# Altium footprint library CONN_FPC.PcbLib: 37 footprints (part 2 of 3)
Each footprint in its own frame and in the unit in brackets; x right, y up, seen from the top. Pads: shape width x height; smd on the part's side, far side on the other; paste and mask are expansions set on the pad; w line width, h text height; cw(c..) or ccw(c..) is an arc to the next point about the centre after c.
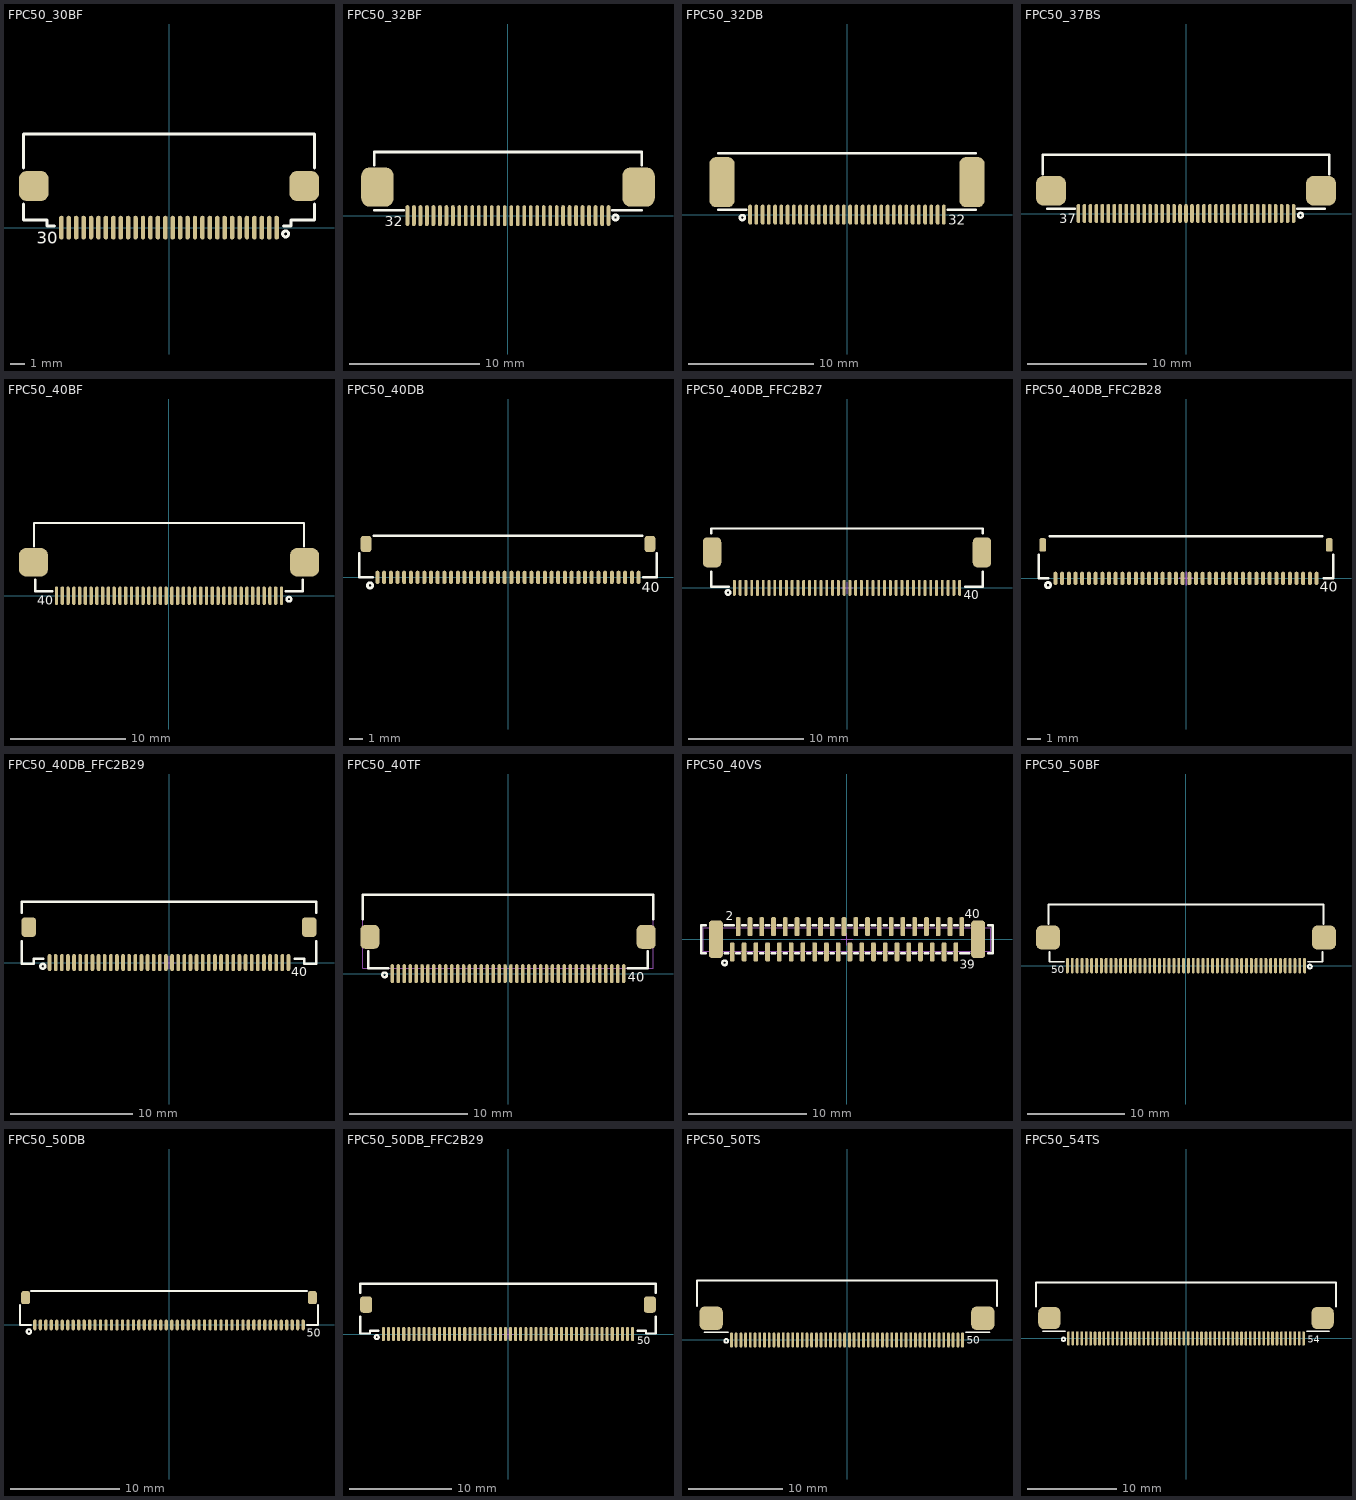
[diagram p1: the footprints below, top view; thin cyan lines are the x and y axes]

## FPC50_30BF [mm] "FPC, pitch: 0.5mm, Bot. Contact, front flip lock, FFC2B35-30-G"
height 3
pads (32):
  oval 0.3x1.6 smd mask+0.05: 1(7.25,0) 2(6.75,0) 3(6.25,0) 4(5.75,0) 5(5.25,0) 6(4.75,0) 7(4.25,0) 8(3.75,0) 9(3.25,0) 10(2.75,0) 11(2.25,0) 12(1.75,0) 13(1.25,0) 14(0.75,0) 15(0.25,0) 16(-0.25,0) 17(-0.75,0) 18(-1.25,0) 19(-1.75,0) 20(-2.25,0) 21(-2.75,0) 22(-3.25,0) 23(-3.75,0) 24(-4.25,0) 25(-4.75,0) 26(-5.25,0) 27(-5.75,0) 28(-6.25,0) 29(-6.75,0) 30(-7.25,0)
  rrect50% 2x2 smd: ""(-9.1,2.8) ""(9.1,2.8)
Top Overlay:
  circle w0.2: c7.85,-0.425 r0.2
  lines w0.2: -9.8,1.6 -9.8,0.5 -8.2,0.5 -8.2,0.1 -7.7,0.1 ; -9.8,4 -9.8,6.3 9.8,6.3 9.8,4 ; 7.7,0.1 8.2,0.1 8.2,0.5 9.8,0.5 9.8,1.6
  text "30" at -8.9,-1.1 h0.8
3D body "FFC2B35-30-G_REVA2.step": height 2.1, standoff 0.1, extent -9.7,-0.515 9.7,6.245

## FPC50_32BF [mm] "FPC 0.5mm, Bottom Contact, front flip lock"
height 3
pads (34):
  oval 0.3x1.6 smd mask+0.05: 1(7.75,0) 2(7.25,0) 3(6.75,0) 4(6.25,0) 5(5.75,0) 6(5.25,0) 7(4.75,0) 8(4.25,0) 9(3.75,0) 10(3.25,0) 11(2.75,0) 12(2.25,0) 13(1.75,0) 14(1.25,0) 15(0.75,0) 16(0.25,0) 17(-0.25,0) 18(-0.75,0) 19(-1.25,0) 20(-1.75,0) 21(-2.25,0) 22(-2.75,0) 23(-3.25,0) 24(-3.75,0) 25(-4.25,0) 26(-4.75,0) 27(-5.25,0) 28(-5.75,0) 29(-6.25,0) 30(-6.75,0) 31(-7.25,0) 32(-7.75,0)
  rrect50% 2.5x3 smd: ""(-10.05,2.2) ""(10.05,2.2)
Top Overlay:
  circle w0.2: c8.281,-0.145 r0.2
  lines w0.2: -10.3,0.4 -8.05,0.4 ; -10.3,3.9 -10.3,4.9 10.3,4.9 10.3,3.9 ; 8.05,0.4 10.3,0.4
  text "32" at -9.5,-0.8 h0.8
3D body "FFC2B35-32-T.stp": height 1.99, standoff -0.01, extent -10.2,-0.3 10.2,6.46

## FPC50_32DB [mm] "FPC, 32 Position; 0.5mm, Dual Side Contact, back flip lock"
height 3
pads (34):
  oval 0.3x1.6 smd mask+0.05: 1(-7.75,0) 2(-7.25,0) 3(-6.75,0) 4(-6.25,0) 5(-5.75,0) 6(-5.25,0) 7(-4.75,0) 8(-4.25,0) 9(-3.75,0) 10(-3.25,0) 11(-2.75,0) 12(-2.25,0) 13(-1.75,0) 14(-1.25,0) 15(-0.75,0) 16(-0.25,0) 17(0.25,0) 18(0.75,0) 19(1.25,0) 20(1.75,0) 21(2.25,0) 22(2.75,0) 23(3.25,0) 24(3.75,0) 25(4.25,0) 26(4.75,0) 27(5.25,0) 28(5.75,0) 29(6.25,0) 30(6.75,0) 31(7.25,0) 32(7.75,0)
  rrect50% 2x4 smd: ""(-10,2.6) ""(10,2.6)
Top Overlay:
  circle w0.2: c-8.374,-0.24 r0.2
  lines w0.2: -10.3,0.4 -8.05,0.4 ; -10.3,4.9 10.3,4.9 ; 8.05,0.4 10.3,0.4
  text "32" at 8.1,-0.8 h0.8
3D body "XF2M_3215_1A.step": height 2, standoff 0, extent -10.05,-1.035 10.05,4.865

## FPC50_37BS [mm] "FPC, pitch: 0.5mm, Slide lock, TE 3-1734592-7"
height 3
pads (39):
  oval 0.3x1.6 smd mask+0.05: 1(9,0) 2(8.5,0) 3(8,0) 4(7.5,0) 5(7,0) 6(6.5,0) 7(6,0) 8(5.5,0) 9(5,0) 10(4.5,0) 11(4,0) 12(3.5,0) 13(3,0) 14(2.5,0) 15(2,0) 16(1.5,0) 17(1,0) 18(0.5,0) 19(0,0) 20(-0.5,0) 21(-1,0) 22(-1.5,0) 23(-2,0) 24(-2.5,0) 25(-3,0) 26(-3.5,0) 27(-4,0) 28(-4.5,0) 29(-5,0) 30(-5.5,0) 31(-6,0) 32(-6.5,0) 33(-7,0) 34(-7.5,0) 35(-8,0) 36(-8.5,0) 37(-9,0)
  rrect50% 2.5x2.5 smd: ""(-11.3,1.9) ""(11.3,1.9)
Top Overlay:
  circle w0.2: c9.581,-0.145 r0.2
  lines w0.2: -12,3.3 -12,4.9 12,4.9 12,3.3 ; -11.6,0.4 -9.3,0.4 ; 9.3,0.4 11.6,0.4
  text "37" at -10.6,-0.8 h0.8
3D body "3-1734592-7.stp": height 2.05, standoff 0, extent -11.965,-0.3 11.965,4.81

## FPC50_40BF [mm] "FPC, pitch: 0.5mm, Bot. Contact, front flip lock, FH12-40S-0.5SH, molex 54132-4062"
height 3
pads (42):
  oval 0.3x1.6 smd mask+0.05: 1(9.75,0) 2(9.25,0) 3(8.75,0) 4(8.25,0) 5(7.75,0) 6(7.25,0) 7(6.75,0) 8(6.25,0) 9(5.75,0) 10(5.25,0) 11(4.75,0) 12(4.25,0) 13(3.75,0) 14(3.25,0) 15(2.75,0) 16(2.25,0) 17(1.75,0) 18(1.25,0) 19(0.75,0) 20(0.25,0) 21(-0.25,0) 22(-0.75,0) 23(-1.25,0) 24(-1.75,0) 25(-2.25,0) 26(-2.75,0) 27(-3.25,0) 28(-3.75,0) 29(-4.25,0) 30(-4.75,0) 31(-5.25,0) 32(-5.75,0) 33(-6.25,0) 34(-6.75,0) 35(-7.25,0) 36(-7.75,0) 37(-8.25,0) 38(-8.75,0) 39(-9.25,0) 40(-9.75,0)
  rrect50% 2.5x2.5 smd: ""(-11.75,2.9) ""(11.75,2.9)
Top Overlay:
  circle w0.2: c10.4,-0.3 r0.2
  lines w0.2: -11.7,4.3 -11.7,6.3 11.7,6.3 11.7,4.3 ; -11.6,1.4 -11.6,0.4 -10.1,0.4 ; 10.1,0.4 11.6,0.4 11.6,1.4
  text "40" at -11.4,-0.8 h0.8
3D body "FH12-40S-0.5SH.stp": height 2.09, standoff -0.01, extent -12.05,-0.3 12.05,6.1

## FPC50_40DB [mm] "FPC, 40 Position; 0.5mm, Top&Bottom Contact, back flip lock, FH34SRJ-40S-0.5SH"
height 2
pads (42):
  oval 0.3x1 smd paste-0.025 mask+0.05: 1(-9.75,0) 2(-9.25,0) 3(-8.75,0) 4(-8.25,0) 5(-7.75,0) 6(-7.25,0) 7(-6.75,0) 8(-6.25,0) 9(-5.75,0) 10(-5.25,0) 11(-4.75,0) 12(-4.25,0) 13(-3.75,0) 14(-3.25,0) 15(-2.75,0) 16(-2.25,0) 17(-1.75,0) 18(-1.25,0) 19(-0.75,0) 20(-0.25,0) 21(0.25,0) 22(0.75,0) 23(1.25,0) 24(1.75,0) 25(2.25,0) 26(2.75,0) 27(3.25,0) 28(3.75,0) 29(4.25,0) 30(4.75,0) 31(5.25,0) 32(5.75,0) 33(6.25,0) 34(6.75,0) 35(7.25,0) 36(7.75,0) 37(8.25,0) 38(8.75,0) 39(9.25,0) 40(9.75,0)
  rrect50% 0.8x1.2 smd paste-0.05 mask+0.05: ""(-10.6,2.5) ""(10.6,2.5)
Top Overlay:
  circle w0.2: c-10.3,-0.6 r0.2
  lines w0.2: -11.1,1.8 -11.1,0 -10.1,0 ; -10,3.1 10,3.1 ; 10.1,0 11.1,0 11.1,1.8
  text "40" at 10,-1.1 h0.75
3D body "FH34SRJ-40S-0.5SH.stp": height 1, standoff 0, extent -11,-0.8 11,3

## FPC50_40DB_FFC2B27 [mm] "FPC, 40 Position; 0.5mm, Top&Bottom Contact, back flip lock, GCT FFC2B27-40-G"
pads (42):
  oval 0.25x1.4 smd mask+0.05: 1(-9.75,0) 2(-9.25,0) 3(-8.75,0) 4(-8.25,0) 5(-7.75,0) 6(-7.25,0) 7(-6.75,0) 8(-6.25,0) 9(-5.75,0) 10(-5.25,0) 11(-4.75,0) 12(-4.25,0) 13(-3.75,0) 14(-3.25,0) 15(-2.75,0) 16(-2.25,0) 17(-1.75,0) 18(-1.25,0) 19(-0.75,0) 20(-0.25,0) 21(0.25,0) 22(0.75,0) 23(1.25,0) 24(1.75,0) 25(2.25,0) 26(2.75,0) 27(3.25,0) 28(3.75,0) 29(4.25,0) 30(4.75,0) 31(5.25,0) 32(5.75,0) 33(6.25,0) 34(6.75,0) 35(7.25,0) 36(7.75,0) 37(8.25,0) 38(8.75,0) 39(9.25,0) 40(9.75,0)
  rrect50% 1.6x2.6 smd: ""(-11.685,3.08) ""(11.685,3.08)
Top Overlay:
  circle w0.2: c-10.3,-0.4 r0.2
  lines w0.2: -11.75,1.418 -11.75,0.09 -10.225,0.09 ; -11.75,4.718 -11.75,5.13 11.75,5.13 11.75,4.718 ; 10.225,0.09 11.75,0.09 11.75,1.418
  text "40" at 10.1,-1 h0.75
Mechanical 13:
  lines w0.1: -0.5,0 0.5,0 ; 0,-0.5 0,0.5
3D body "FFC2B27-40-G.stp": height 2.87, standoff -0.05, extent -11.75,-0.2 11.75,5.07

## FPC50_40DB_FFC2B28 [mm] "FPC, 40 Position; 0.5mm, Top&Bottom Contact, back flip lock, GCT FFC2B28-40-G"
height 1.75
pads (42):
  oval 0.3x1 smd mask+0.05: 1(-9.75,0) 2(-9.25,0) 3(-8.75,0) 4(-8.25,0) 5(-7.75,0) 6(-7.25,0) 7(-6.75,0) 8(-6.25,0) 9(-5.75,0) 10(-5.25,0) 11(-4.75,0) 12(-4.25,0) 13(-3.75,0) 14(-3.25,0) 15(-2.75,0) 16(-2.25,0) 17(-1.75,0) 18(-1.25,0) 19(-0.75,0) 20(-0.25,0) 21(0.25,0) 22(0.75,0) 23(1.25,0) 24(1.75,0) 25(2.25,0) 26(2.75,0) 27(3.25,0) 28(3.75,0) 29(4.25,0) 30(4.75,0) 31(5.25,0) 32(5.75,0) 33(6.25,0) 34(6.75,0) 35(7.25,0) 36(7.75,0) 37(8.25,0) 38(8.75,0) 39(9.25,0) 40(9.75,0)
  rrect50% 0.5x1 smd: ""(-10.7,2.5) ""(10.7,2.5)
Top Overlay:
  circle w0.2: c-10.3,-0.5 r0.2
  lines w0.2: -11,1.75 -11,0 -10.3,0 ; -10.15,3.15 10.15,3.15 ; 10.3,0 11,0 11,1.75
  text "40" at 10,-1 h0.75
Mechanical 13:
  lines w0.1: -0.5,0 0.5,0 ; 0,-0.5 0,0.5
3D body "FFC2B28-40-G.stp": height 1.72, standoff -0.03, extent -11,-0.25 11,3

## FPC50_40DB_FFC2B29 [mm] "FPC, 40 Position; 0.5mm, Top&Bottom Contact, back flip lock, GCT FFC2B29-40-G"
pads (42):
  oval 0.3x1.4 smd mask+0.05: 1(-9.75,0) 2(-9.25,0) 3(-8.75,0) 4(-8.25,0) 5(-7.75,0) 6(-7.25,0) 7(-6.75,0) 8(-6.25,0) 9(-5.75,0) 10(-5.25,0) 11(-4.75,0) 12(-4.25,0) 13(-3.75,0) 14(-3.25,0) 15(-2.75,0) 16(-2.25,0) 17(-1.75,0) 18(-1.25,0) 19(-0.75,0) 20(-0.25,0) 21(0.25,0) 22(0.75,0) 23(1.25,0) 24(1.75,0) 25(2.25,0) 26(2.75,0) 27(3.25,0) 28(3.75,0) 29(4.25,0) 30(4.75,0) 31(5.25,0) 32(5.75,0) 33(6.25,0) 34(6.75,0) 35(7.25,0) 36(7.75,0) 37(8.25,0) 38(8.75,0) 39(9.25,0) 40(9.75,0)
  rrect50% 1.2x1.6 smd: ""(-11.445,2.895) ""(11.445,2.895)
Top Overlay:
  circle w0.2: c-10.3,-0.3 r0.2
  lines w0.2: -12.025,1.745 -12.025,-0.1 -11.055,-0.1 -11.055,0.325 -10.25,0.325 ; -12.025,4.045 -12.025,4.945 12.025,4.945 12.025,4.045 ; 10.25,0.325 11.055,0.325 11.055,-0.1 12.025,-0.1 12.025,1.745
  text "40" at 10,-1.1 h0.75
Mechanical 13:
  lines w0.1: -0.5,0 0.5,0 ; 0,-0.5 0,0.5
3D body "FFC2B29-40-G.stp": height 3.66, standoff -0.05, extent -12.025,-0.4 12.025,4.87

## FPC50_40TF [mm] "FPC, 40 Position; 0.5mm, Top Contact, front flip lock"
height 2
pads (42):
  oval 0.3x1.6 smd mask+0.05: 1(-9.75,0) 2(-9.25,0) 3(-8.75,0) 4(-8.25,0) 5(-7.75,0) 6(-7.25,0) 7(-6.75,0) 8(-6.25,0) 9(-5.75,0) 10(-5.25,0) 11(-4.75,0) 12(-4.25,0) 13(-3.75,0) 14(-3.25,0) 15(-2.75,0) 16(-2.25,0) 17(-1.75,0) 18(-1.25,0) 19(-0.75,0) 20(-0.25,0) 21(0.25,0) 22(0.75,0) 23(1.25,0) 24(1.75,0) 25(2.25,0) 26(2.75,0) 27(3.25,0) 28(3.75,0) 29(4.25,0) 30(4.75,0) 31(5.25,0) 32(5.75,0) 33(6.25,0) 34(6.75,0) 35(7.25,0) 36(7.75,0) 37(8.25,0) 38(8.75,0) 39(9.25,0) 40(9.75,0)
  rrect50% 1.6x2 smd: ""(-11.65,3.1) ""(11.65,3.1)
Top Overlay:
  circle w0.2: c-10.4,-0.1 r0.2
  lines w0.2: -12.25,4.57 -12.25,6.645 12.25,6.645 12.25,4.57 ; -11.8,1.9 -11.8,0.445 -10.1,0.445 ; 10.1,0.445 11.8,0.445 11.8,1.9
  text "40" at 10.1,-0.7 h0.8
Mechanical 13:
  lines w0.1: -12.25,0.445 12.25,0.445 12.25,6.645 -12.25,6.645 -12.25,0.445
3D body "FH12A-40S-0.5SH.stp": height 2.05, standoff -0.1, extent -12.25,-0.3 12.25,6.7

## FPC50_40VS [mm] "FPC, FH12 Series; 40 Position; 0.5mm,Vertical, FH12-40S-0.5SVA Slide-lock"
pads (42):
  rrect50% 0.4x1.6 smd mask+0.1: 1(-9.75,-1.075) 2(-9.25,1.075) 3(-8.75,-1.075) 4(-8.25,1.075) 5(-7.75,-1.075) 6(-7.25,1.075) 7(-6.75,-1.075) 8(-6.25,1.075) 9(-5.75,-1.075) 10(-5.25,1.075) 11(-4.75,-1.075) 12(-4.25,1.075) 13(-3.75,-1.075) 14(-3.25,1.075) 15(-2.75,-1.075) 16(-2.25,1.075) 17(-1.75,-1.075) 18(-1.25,1.075) 19(-0.75,-1.075) 20(-0.25,1.075) 21(0.25,-1.075) 22(0.75,1.075) 23(1.25,-1.075) 24(1.75,1.075) 25(2.25,-1.075) 26(2.75,1.075) 27(3.25,-1.075) 28(3.75,1.075) 29(4.25,-1.075) 30(4.75,1.075) 31(5.25,-1.075) 32(5.75,1.075) 33(6.25,-1.075) 34(6.75,1.075) 35(7.25,-1.075) 36(7.75,1.075) 37(8.25,-1.075) 38(8.75,1.075) 39(9.25,-1.075) 40(9.75,1.075)
  rrect50% 1.2x3.2 smd: ""(-11.15,0) ""(11.15,0)
Top Overlay:
  circle w0.2: c-10.4,-2 r0.2
  lines w0.2: -12,-1.2 -12.4,-1.2 -12.4,1.2 -12,1.2 ; -10.4,-1.2 -10.1,-1.2 ; -10.4,1.2 -9.6,1.2 ; -9.4,-1.2 -9.1,-1.2 ; -8.9,1.2 -8.6,1.2 ; -8.4,-1.2 -8.1,-1.2 ; -7.9,1.2 -7.6,1.2 ; -7.4,-1.2 -7.1,-1.2 ; -6.9,1.2 -6.6,1.2 ; -6.4,-1.2 -6.1,-1.2 ; -5.9,1.2 -5.6,1.2 ; -5.4,-1.2 -5.1,-1.2 ; -4.9,1.2 -4.6,1.2 ; -4.4,-1.2 -4.1,-1.2 ; -3.9,1.2 -3.6,1.2 ; -3.4,-1.2 -3.1,-1.2 ; -2.9,1.2 -2.6,1.2 ; -2.4,-1.2 -2.1,-1.2 ; -1.9,1.2 -1.6,1.2 ; -1.4,-1.2 -1.1,-1.2 ; -0.9,1.2 -0.6,1.2 ; -0.4,-1.2 -0.1,-1.2 ; 0.1,1.2 0.4,1.2 ; 0.6,-1.2 0.9,-1.2 ; 1.1,1.2 1.4,1.2 ; 1.6,-1.2 1.9,-1.2 ; 2.1,1.2 2.4,1.2 ; 2.6,-1.2 2.9,-1.2 ; 3.1,1.2 3.4,1.2 ; 3.6,-1.2 3.9,-1.2 ; 4.1,1.2 4.4,1.2 ; 4.6,-1.2 4.9,-1.2 ; 5.1,1.2 5.4,1.2 ; 5.6,-1.2 5.9,-1.2 ; 6.1,1.2 6.4,1.2 ; 6.6,-1.2 6.9,-1.2 ; 7.1,1.2 7.4,1.2 ; 7.6,-1.2 7.9,-1.2 ; 8.1,1.2 8.4,1.2 ; 8.6,-1.2 8.9,-1.2 ; 9.1,1.2 9.4,1.2 ; 9.6,-1.2 10.4,-1.2 ; 10.1,1.2 10.4,1.2 ; 12,-1.2 12.4,-1.2 12.4,1.2 12,1.2
  text "40" at 10,1.8 h0.75
  text "2" at -10.3,1.6 h0.75
  text "39" at 9.6,-2.5 h0.75
Mechanical 13:
  lines w0.1: -12.2,-1 12.2,-1 12.2,1 -12.2,1 -12.2,-1
Mechanical 15:
  lines w0.1: -0.5,0 0.5,0 ; 0,-0.5 0,0.5
3D body "ZIF connector.stp": height 4.47, standoff -0.02, extent -12.118,-1.454 12.182,1.483

## FPC50_50BF [mm] "FPC, pitch: 0.5mm, Bot. Contact, front flip lock, FH12-50S-0.5SH"
height 3
pads (52):
  oval 0.3x1.6 smd mask+0.05: 1(12.25,0) 2(11.75,0) 3(11.25,0) 4(10.75,0) 5(10.25,0) 6(9.75,0) 7(9.25,0) 8(8.75,0) 9(8.25,0) 10(7.75,0) 11(7.25,0) 12(6.75,0) 13(6.25,0) 14(5.75,0) 15(5.25,0) 16(4.75,0) 17(4.25,0) 18(3.75,0) 19(3.25,0) 20(2.75,0) 21(2.25,0) 22(1.75,0) 23(1.25,0) 24(0.75,0) 25(0.25,0) 26(-0.25,0) 27(-0.75,0) 28(-1.25,0) 29(-1.75,0) 30(-2.25,0) 31(-2.75,0) 32(-3.25,0) 33(-3.75,0) 34(-4.25,0) 35(-4.75,0) 36(-5.25,0) 37(-5.75,0) 38(-6.25,0) 39(-6.75,0) 40(-7.25,0) 41(-7.75,0) 42(-8.25,0) 43(-8.75,0) 44(-9.25,0) 45(-9.75,0) 46(-10.25,0) 47(-10.75,0) 48(-11.25,0) 49(-11.75,0) 50(-12.25,0)
  rrect50% 2.5x2.5 smd: ""(-14.25,2.9) ""(14.25,2.9)
Top Overlay:
  circle w0.2: c12.8,-0.1 r0.2
  lines w0.2: -14.2,4.3 -14.2,6.3 14.2,6.3 14.2,4.3 ; -14.1,1.4 -14.1,0.4 -12.6,0.4 ; 12.6,0.4 14.1,0.4 14.1,1.4
  text "50" at -13.9,-0.8 h0.8
3D body "FH12-50S-0.5SH.stp": height 2.09, standoff -0.01, extent -14.55,-0.3 14.55,6.1

## FPC50_50DB [mm] "FPC, pitch: 0.5mm, Top&Bottom Contact, back flip lock, FH34SRJ-50S-0.5SH"
height 3
pads (52):
  oval 0.3x1 smd paste-0.025 mask+0.05: 1(-12.25,0) 2(-11.75,0) 3(-11.25,0) 4(-10.75,0) 5(-10.25,0) 6(-9.75,0) 7(-9.25,0) 8(-8.75,0) 9(-8.25,0) 10(-7.75,0) 11(-7.25,0) 12(-6.75,0) 13(-6.25,0) 14(-5.75,0) 15(-5.25,0) 16(-4.75,0) 17(-4.25,0) 18(-3.75,0) 19(-3.25,0) 20(-2.75,0) 21(-2.25,0) 22(-1.75,0) 23(-1.25,0) 24(-0.75,0) 25(-0.25,0) 26(0.25,0) 27(0.75,0) 28(1.25,0) 29(1.75,0) 30(2.25,0) 31(2.75,0) 32(3.25,0) 33(3.75,0) 34(4.25,0) 35(4.75,0) 36(5.25,0) 37(5.75,0) 38(6.25,0) 39(6.75,0) 40(7.25,0) 41(7.75,0) 42(8.25,0) 43(8.75,0) 44(9.25,0) 45(9.75,0) 46(10.25,0) 47(10.75,0) 48(11.25,0) 49(11.75,0) 50(12.25,0)
  rrect50% 0.8x1.2 smd paste-0.05 mask+0.05: ""(-13.1,2.5) ""(13.1,2.5)
Top Overlay:
  circle w0.2: c-12.8,-0.6 r0.2
  lines w0.2: -13.6,1.8 -13.6,0 -12.6,0 ; -12.6,3.1 12.6,3.1 ; 12.6,0 13.6,0 13.6,1.8
  text "50" at 12.6,-1.1 h0.75
3D body "FH34SRJ-50S-0.5SH.stp": height 1, standoff 0, extent -13.5,-0.8 13.5,3

## FPC50_50DB_FFC2B29 [mm] "FPC, 40 Position; 0.5mm, Top&Bottom Contact, back flip lock, GCT FFC2B29-50-G"
pads (52):
  oval 0.3x1.4 smd mask+0.05: 1(-12.25,0) 2(-11.75,0) 3(-11.25,0) 4(-10.75,0) 5(-10.25,0) 6(-9.75,0) 7(-9.25,0) 8(-8.75,0) 9(-8.25,0) 10(-7.75,0) 11(-7.25,0) 12(-6.75,0) 13(-6.25,0) 14(-5.75,0) 15(-5.25,0) 16(-4.75,0) 17(-4.25,0) 18(-3.75,0) 19(-3.25,0) 20(-2.75,0) 21(-2.25,0) 22(-1.75,0) 23(-1.25,0) 24(-0.75,0) 25(-0.25,0) 26(0.25,0) 27(0.75,0) 28(1.25,0) 29(1.75,0) 30(2.25,0) 31(2.75,0) 32(3.25,0) 33(3.75,0) 34(4.25,0) 35(4.75,0) 36(5.25,0) 37(5.75,0) 38(6.25,0) 39(6.75,0) 40(7.25,0) 41(7.75,0) 42(8.25,0) 43(8.75,0) 44(9.25,0) 45(9.75,0) 46(10.25,0) 47(10.75,0) 48(11.25,0) 49(11.75,0) 50(12.25,0)
  rrect50% 1.2x1.6 smd: ""(-13.945,2.895) ""(13.945,2.895)
Top Overlay:
  circle w0.2: c-12.9,-0.3 r0.2
  lines w0.2: -14.525,1.745 -14.525,0.045 -13.555,0.045 -13.555,0.325 -12.75,0.325 ; -14.525,4.045 -14.525,4.945 14.525,4.945 14.525,4.045 ; 12.75,0.325 13.555,0.325 13.555,0.045 14.525,0.045 14.525,1.745
  text "50" at 12.7,-1 h0.75
Mechanical 13:
  lines w0.1: -0.5,0 0.5,0 ; 0,-0.5 0,0.5
3D body "FFC2B29-50-G.stp": height 3.66, standoff -0.05, extent -14.525,-0.4 14.525,4.87

## FPC50_50TS [mm] "FPC, pitch: 0.5mm, Top Contact, Slide lock, FFC2B17-50-T"
height 3
pads (52):
  oval 0.3x1.6 smd mask+0.05: 1(-12.25,0) 2(-11.75,0) 3(-11.25,0) 4(-10.75,0) 5(-10.25,0) 6(-9.75,0) 7(-9.25,0) 8(-8.75,0) 9(-8.25,0) 10(-7.75,0) 11(-7.25,0) 12(-6.75,0) 13(-6.25,0) 14(-5.75,0) 15(-5.25,0) 16(-4.75,0) 17(-4.25,0) 18(-3.75,0) 19(-3.25,0) 20(-2.75,0) 21(-2.25,0) 22(-1.75,0) 23(-1.25,0) 24(-0.75,0) 25(-0.25,0) 26(0.25,0) 27(0.75,0) 28(1.25,0) 29(1.75,0) 30(2.25,0) 31(2.75,0) 32(3.25,0) 33(3.75,0) 34(4.25,0) 35(4.75,0) 36(5.25,0) 37(5.75,0) 38(6.25,0) 39(6.75,0) 40(7.25,0) 41(7.75,0) 42(8.25,0) 43(8.75,0) 44(9.25,0) 45(9.75,0) 46(10.25,0) 47(10.75,0) 48(11.25,0) 49(11.75,0) 50(12.25,0)
  rrect50% 2.5x2.5 smd: ""(-14.4,2.3) ""(14.4,2.3)
Top Overlay:
  circle w0.2: c-12.8,-0.1 r0.2
  lines w0.2: -15.9,3.6 -15.9,6.3 15.9,6.3 15.9,3.6 ; -15.1,0.816 -12.6,0.816 ; 12.6,0.816 15.1,0.816
  text "50" at 12.7,-0.4 h0.8
3D body "FFC2B17-50-X_revA3.STEP": height 2.46, standoff -0.05, extent -15.75,-0.5 15.75,6.25

## FPC50_54TS [mm] "FPC, pitch: 0.5mm, Top Contact, Slide lock, FFC2B17-54-T"
height 3
pads (56):
  oval 0.3x1.6 smd mask+0.05: 1(-13.25,0) 2(-12.75,0) 3(-12.25,0) 4(-11.75,0) 5(-11.25,0) 6(-10.75,0) 7(-10.25,0) 8(-9.75,0) 9(-9.25,0) 10(-8.75,0) 11(-8.25,0) 12(-7.75,0) 13(-7.25,0) 14(-6.75,0) 15(-6.25,0) 16(-5.75,0) 17(-5.25,0) 18(-4.75,0) 19(-4.25,0) 20(-3.75,0) 21(-3.25,0) 22(-2.75,0) 23(-2.25,0) 24(-1.75,0) 25(-1.25,0) 26(-0.75,0) 27(-0.25,0) 28(0.25,0) 29(0.75,0) 30(1.25,0) 31(1.75,0) 32(2.25,0) 33(2.75,0) 34(3.25,0) 35(3.75,0) 36(4.25,0) 37(4.75,0) 38(5.25,0) 39(5.75,0) 40(6.25,0) 41(6.75,0) 42(7.25,0) 43(7.75,0) 44(8.25,0) 45(8.75,0) 46(9.25,0) 47(9.75,0) 48(10.25,0) 49(10.75,0) 50(11.25,0) 51(11.75,0) 52(12.25,0) 53(12.75,0) 54(13.25,0)
  rrect50% 2.5x2.5 smd: ""(-15.4,2.3) ""(15.4,2.3)
Top Overlay:
  circle w0.2: c-13.8,-0.1 r0.2
  lines w0.2: -16.9,3.6 -16.9,6.3 16.9,6.3 16.9,3.6 ; -16.1,0.816 -13.6,0.816 ; 13.6,0.816 16.1,0.816
  text "54" at 13.7,-0.5 h0.8
3D body "FFC2B17-54-X_revA3.STEP": height 2.46, standoff -0.05, extent -16.75,-0.5 16.75,6.25